# EAGLE library part LTC4150 (library SparkFun-IC-Power)
LTC4150 Coulomb Counter / Battery Gas Gauge Indicates Charge Quantity and Polarity ±50mV Sense Voltage Range Precision Timer Capacitor or Crystal Not Required 2.7V to 8.5V Operation High Side Sense 32.55Hz/V Charge Count Frequency 1.5μA Shutdown Current 10-Pin MSOP Package Datasheet <https://cdn.sparkfun.com/datasheets/BreakoutBoards/LTC4150fc.pdf> Manufacturer's page: http://www.linear.com/product/LTC4150 SparkFun Products SparkFun Coulomb Counter Breakout - LTC4150 <https://www.sparkfun.com/products/12052> (BOB-12052)
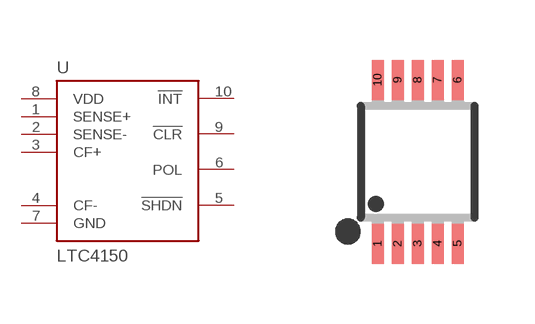
[diagram p15: symbol with the pads of MSOP10; footprint MSOP10]

Designator prefix U

## LTC4150 (PROD_ID: IC-11785; VALUE: LTC4150CMS)  [MSOP10]
1  SENSE+
2  SENSE-
3  CF+
4  CF-
5  !SHDN!  in
6  POL
7  GND  pwr
8  VDD  pwr
9  !CLR!
10  !INT!

## Footprint MSOP10 (pad centres in mm)
10 Lead Platic MSOP Source: http://www.linear.com .. LT1996
smd 0.3 x 1: 1 -1,-2.05; 2 -0.5,-2.05; 3 0,-2.05; 4 0.5,-2.05; 5 1,-2.05; 6 1,2.05; 7 0.5,2.05; 8 0,2.05; 9 -0.5,2.05; 10 -1,2.05